# Altium footprint library demoboard.PcbLib: 10 footprints
Each footprint in its own frame and in the unit in brackets; x right, y up, seen from the top. Pads: shape width x height; smd on the part's side, far side on the other; paste and mask are expansions set on the pad; w line width, h text height; cw(c..) or ccw(c..) is an arc to the next point about the centre after c.
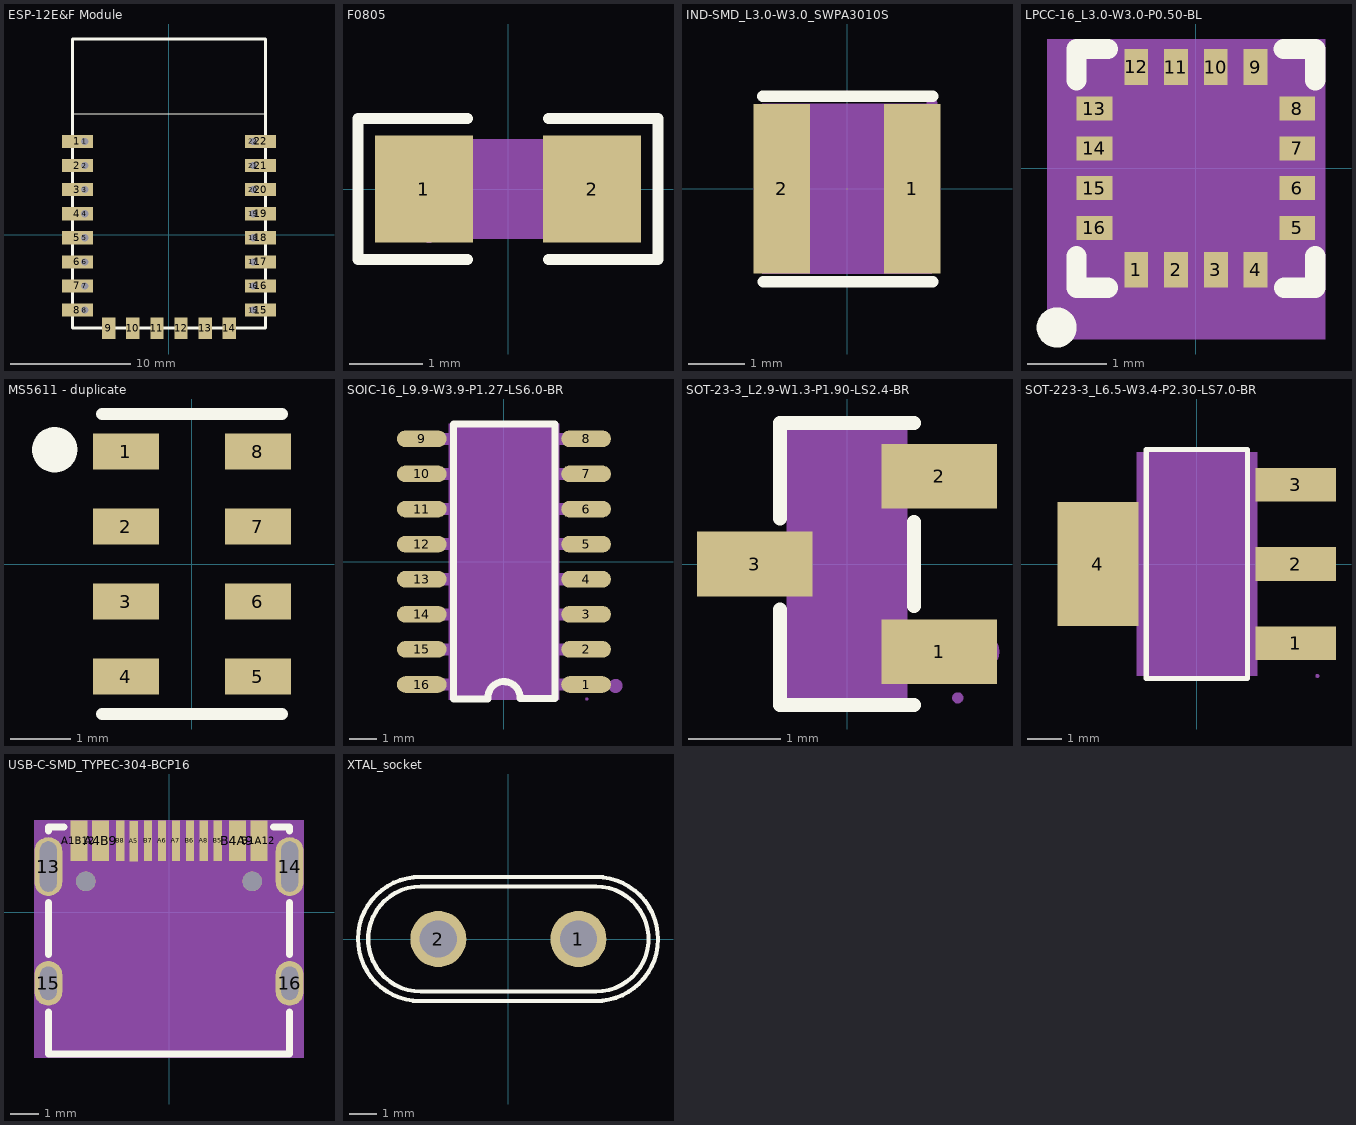
[diagram p0: the footprints below, top view; thin cyan lines are the x and y axes]

## ESP-12E&F Module [mm]
pads (38):
  rect 2.6x1.1 smd: 1(-7.6,7.75) 2(-7.6,5.75) 3(-7.6,3.75) 4(-7.6,1.75) 5(-7.6,-0.25) 6(-7.6,-2.25) 7(-7.6,-4.25) 8(-7.6,-6.25) 15(7.6,-6.25) 16(7.6,-4.25) 17(7.6,-2.25) 18(7.6,-0.25) 19(7.6,1.75) 20(7.6,3.75) 21(7.6,5.75) 22(7.6,7.75)
  rect 0.762x1 hole 0.6: 1(-7,7.75) 7(-7,-4.25)
  rect 0.762x1 / inner rect 0.762x1 / far side rect 1x1 hole 0.6: 2(-7,5.75) 3(-7,3.75) 4(-7,1.75) 5(-7,-0.25) 6(-7,-2.25) 8(-7,-6.25) 15(7,-6.25) 16(7,-4.25) 17(7,-2.25) 18(7,-0.25) 19(7,1.75) 20(7,3.75) 21(7,5.75) 22(7,7.75)
  rect 1.1x1.8 smd: 9(-5,-7.75) 10(-3,-7.75) 11(-1,-7.75) 12(1,-7.75) 13(3,-7.75) 14(5,-7.75)
Top Overlay:
  lines w0.1: -8,10.05 8,10.05
  lines w0.254: -8,-7.75 -8,16.25 8,16.25 8,-7.75 -8,-7.75

## F0805 [mm]
pads (2):
  rect 1.335x1.458 smd: 1(-1.142,0) 2(1.142,0)
Top Overlay:
  lines w0.152: -0.551,-0.958 -2.039,-0.958 -2.039,0.958 -0.551,0.958 ; 0.551,-0.958 2.039,-0.958 2.039,0.958 0.551,0.958
Top Paste:
  region: 0.428,-0.233 0.428,0.233 0.881,0.729 1.71,0.729 1.81,0.629 1.81,-0.629 1.71,-0.729 0.881,-0.729
  region: -0.428,-0.233 -0.428,0.233 -0.881,0.729 -1.71,0.729 -1.81,0.629 -1.81,-0.629 -1.71,-0.729 -0.881,-0.729
Mechanical 4:
  region: -1.075,-0.675 -1.075,0.675 1.075,0.675 1.075,-0.675
Mechanical 5:
  region: -1.075,-0.675 -1.075,0.675 -0.675,0.675 -0.675,-0.675
  region: 1.075,-0.675 1.075,0.675 0.675,0.675 0.675,-0.675
Mechanical 6:
  circle w0.06: c-1.075,-0.675 r0.03

## IND-SMD_L3.0-W3.0_SWPA3010S [mm]
pads (2):
  rect 1x3 smd: 1(1.15,0) 2(-1.15,0)
Top Overlay:
  lines w0.203: -1.487,1.639 1.513,1.639 ; -1.481,-1.647 1.519,-1.647
Mechanical 4:
  region: -1.5,1.5 1.5,1.5 1.5,-1.5 -1.5,-1.5
Mechanical 5:
  region: 1.5,-1.25 0.75,-1.25 0.75,1.25 1.5,1.25
  region: -0.75,-1.25 -1.5,-1.25 -1.5,1.25 -0.75,1.25
Mechanical 6:
  circle w0.1: c1.5,1.5 r0.05

## LPCC-16_L3.0-W3.0-P0.50-BL [mm]
pads (16):
  rect 0.3x0.45 smd: 1(-0.749,-1.275) 2(-0.249,-1.275) 3(0.251,-1.275) 4(0.751,-1.275) 9(0.75,1.275) 10(0.25,1.275) 11(-0.25,1.275) 12(-0.749,1.275)
  rect 0.45x0.3 smd: 5(1.275,-0.748) 6(1.275,-0.248) 7(1.275,0.252) 8(1.275,0.752) 13(-1.275,0.752) 14(-1.275,0.252) 15(-1.275,-0.248) 16(-1.275,-0.748)
Top Overlay:
  circle w0.254: c-1.75,-2 r0.125
  lines w0.254: -1.5,-1.104 -1.5,-1.5 -1.105,-1.5 ; -1.5,1.108 -1.5,1.5 -1.105,1.5 ; 1.106,1.5 1.5,1.5 1.5,1.108 ; 1.108,-1.5 1.5,-1.5 1.5,-1.104
Mechanical 4:
  region: -1.869,1.627 1.627,1.627 1.627,-2.145 -1.869,-2.145
Mechanical 5:
  region: -1.5,-0.598 -1.05,-0.598 -1.05,-0.898 -1.5,-0.898
  region: -1.5,-0.098 -1.05,-0.098 -1.05,-0.398 -1.5,-0.398
  region: -1.5,0.402 -1.05,0.402 -1.05,0.102 -1.5,0.102
  region: -1.5,0.902 -1.05,0.902 -1.05,0.602 -1.5,0.602
  region: -0.899,1.5 -0.599,1.5 -0.599,1.05 -0.899,1.05
  region: -0.4,1.5 -0.1,1.5 -0.1,1.05 -0.4,1.05
  region: 0.1,1.5 0.4,1.5 0.4,1.05 0.1,1.05
  region: 0.6,1.5 0.9,1.5 0.9,1.05 0.6,1.05
  region: 1.05,0.902 1.5,0.902 1.5,0.602 1.05,0.602
  region: 1.05,0.402 1.5,0.402 1.5,0.102 1.05,0.102
  region: 1.05,-0.098 1.5,-0.098 1.5,-0.398 1.05,-0.398
  region: 1.05,-0.598 1.5,-0.598 1.5,-0.898 1.05,-0.898
  region: 0.601,-1.05 0.901,-1.05 0.901,-1.5 0.601,-1.5
  region: 0.101,-1.05 0.401,-1.05 0.401,-1.5 0.101,-1.5
  region: -0.399,-1.05 -0.099,-1.05 -0.099,-1.5 -0.399,-1.5
  region: -0.899,-1.05 -0.599,-1.05 -0.599,-1.5 -0.899,-1.5

## MS5611 - duplicate [mm]
height 2.44
pads (8):
  rect 1.1x0.6 smd: 1(-1.1,1.875) 2(-1.1,0.625) 3(-1.1,-0.625) 4(-1.1,-1.875) 5(1.1,-1.875) 6(1.1,-0.625) 7(1.1,0.625) 8(1.1,1.875)
Top Overlay:
  circle w0.5: c-2.286,1.905 r0.127
  lines w0.2: -1.5,-2.5 1.5,-2.5 ; -1.5,2.5 1.5,2.5

## SOIC-16_L9.9-W3.9-P1.27-LS6.0-BR [mm]
pads (16):
  oval 1.8x0.6 smd: 1(2.972,-4.445) 2(2.972,-3.175) 3(2.972,-1.905) 4(2.972,-0.635) 5(2.972,0.635) 6(2.972,1.905) 7(2.972,3.175) 8(2.972,4.445) 9(-2.972,4.445) 10(-2.972,3.175) 11(-2.972,1.905) 12(-2.972,0.635) 13(-2.972,-0.635) 14(-2.972,-1.905) 15(-2.972,-3.175) 16(-2.972,-4.445)
Top Overlay:
  lines w0.254: -0.584,-4.976 -1.829,-4.976 -1.829,4.976 1.854,4.976 1.854,-4.928 ; -0.584,-4.95 cw(c0,-4.928) 0.584,-4.953 1.854,-4.953
Mechanical 4:
  region: -2,-5 -2,5 2,5 2,-5
Mechanical 5:
  region: -3,4.235 -3,4.655 -2.165,4.655 -2.165,4.235
  pour cut-out: -2.175,4.235 -2.175,4.655 -1.99,4.655 -1.99,4.235
  region: -3,2.965 -3,3.385 -2.165,3.385 -2.165,2.965
  pour cut-out: -2.175,2.965 -2.175,3.385 -1.99,3.385 -1.99,2.965
  region: -3,1.695 -3,2.115 -2.165,2.115 -2.165,1.695
  pour cut-out: -2.175,1.695 -2.175,2.115 -1.99,2.115 -1.99,1.695
  region: -3,0.425 -3,0.845 -2.165,0.845 -2.165,0.425
  pour cut-out: -2.175,0.425 -2.175,0.845 -1.99,0.845 -1.99,0.425
  region: -3,-0.845 -3,-0.425 -2.165,-0.425 -2.165,-0.845
  pour cut-out: -2.175,-0.845 -2.175,-0.425 -1.99,-0.425 -1.99,-0.845
  region: -3,-2.115 -3,-1.695 -2.165,-1.695 -2.165,-2.115
  pour cut-out: -2.175,-2.115 -2.175,-1.695 -1.99,-1.695 -1.99,-2.115
  region: -3,-3.385 -3,-2.965 -2.165,-2.965 -2.165,-3.385
  pour cut-out: -2.175,-3.385 -2.175,-2.965 -1.99,-2.965 -1.99,-3.385
  region: -3,-4.655 -3,-4.235 -2.165,-4.235 -2.165,-4.655
  pour cut-out: -2.175,-4.655 -2.175,-4.235 -1.99,-4.235 -1.99,-4.655
  region: 2.165,4.235 2.165,4.655 3,4.655 3,4.235
  pour cut-out: 1.99,4.235 1.99,4.655 2.175,4.655 2.175,4.235
  region: 2.165,2.965 2.165,3.385 3,3.385 3,2.965
  pour cut-out: 1.99,2.965 1.99,3.385 2.175,3.385 2.175,2.965
  region: 2.165,1.695 2.165,2.115 3,2.115 3,1.695
  pour cut-out: 1.99,1.695 1.99,2.115 2.175,2.115 2.175,1.695
  region: 2.165,0.425 2.165,0.845 3,0.845 3,0.425
  pour cut-out: 1.99,0.425 1.99,0.845 2.175,0.845 2.175,0.425
  region: 2.165,-0.845 2.165,-0.425 3,-0.425 3,-0.845
  pour cut-out: 1.99,-0.845 1.99,-0.425 2.175,-0.425 2.175,-0.845
  region: 2.165,-2.115 2.165,-1.695 3,-1.695 3,-2.115
  pour cut-out: 1.99,-2.115 1.99,-1.695 2.175,-1.695 2.175,-2.115
  region: 2.165,-3.385 2.165,-2.965 3,-2.965 3,-3.385
  pour cut-out: 1.99,-3.385 1.99,-2.965 2.175,-2.965 2.175,-3.385
  region: 2.165,-4.655 2.165,-4.235 3,-4.235 3,-4.655
  pour cut-out: 1.99,-4.655 1.99,-4.235 2.175,-4.235 2.175,-4.655
Mechanical 6:
  circle w0.06: c3,-4.97 r0.03
Mechanical 15:
  circle w0.254: c4.039,-4.496 r0.127

## SOT-23-3_L2.9-W1.3-P1.90-LS2.4-BR [mm]
pads (3):
  rect 1.25x0.7 smd: 1(1,-0.95) 2(1,0.95) 3(-1,0)
Top Overlay:
  lines w0.152: -0.726,-0.495 -0.726,-1.526 0.726,-1.526 ; -0.726,0.495 -0.726,1.526 0.726,1.526 ; 0.726,-0.455 0.726,0.455
Mechanical 4:
  region: -0.65,-1.45 -0.65,1.45 0.65,1.45 0.65,-1.45
Mechanical 5:
  pour cut-out: -0.69,-0.21 -0.69,0.21 -0.64,0.21 -0.64,-0.21
  region: -1.2,-0.21 -1.2,0.21 -0.68,0.21 -0.68,-0.21
  pour cut-out: 0.64,0.74 0.64,1.16 0.69,1.16 0.69,0.74
  region: 0.68,0.74 0.68,1.16 1.2,1.16 1.2,0.74
  pour cut-out: 0.64,-1.16 0.64,-0.74 0.69,-0.74 0.69,-1.16
  region: 0.68,-1.16 0.68,-0.74 1.2,-0.74 1.2,-1.16
Mechanical 6:
  circle w0.06: c1.2,-1.45 r0.03
Mechanical 15:
  circle w0.2: c1.45,-0.95 r0.1

## SOT-223-3_L6.5-W3.4-P2.30-LS7.0-BR [mm]
pads (4):
  rect 2.34x0.98 smd: 1(2.87,-2.3) 2(2.87,0) 3(2.87,2.3)
  rect 2.34x3.6 smd: 4(-2.87,0)
Top Overlay:
  lines w0.152: -1.471,-3.326 1.471,-3.326 1.471,3.326 -1.471,3.326 -1.471,-3.326
Mechanical 4:
  region: -1.75,-3.25 -1.75,3.25 1.75,3.25 1.75,-3.25
Mechanical 5:
  pour cut-out: -2.61,-1.5 -2.61,1.5 -1.74,1.5 -1.74,-1.5
  region: -2.6,-1.5 -2.6,1.5 -3.5,1.5 -3.5,-1.5
  pour cut-out: 1.74,1.95 1.74,2.65 2.61,2.65 2.61,1.95
  region: 2.6,1.95 2.6,2.65 3.5,2.65 3.5,1.95
  pour cut-out: 1.74,-0.35 1.74,0.35 2.61,0.35 2.61,-0.35
  region: 2.6,-0.35 2.6,0.35 3.5,0.35 3.5,-0.35
  pour cut-out: 1.74,-2.65 1.74,-1.95 2.61,-1.95 2.61,-2.65
  region: 2.6,-2.65 2.6,-1.95 3.5,-1.95 3.5,-2.65
Mechanical 6:
  circle w0.06: c3.5,-3.25 r0.03

## USB-C-SMD_TYPEC-304-BCP16 [mm]
pads (18):
  oval 1x2.1 hole 0.6 slot 1.8 at 90 deg: 13(-4.32,1.633) 14(4.32,1.633)
  oval 1x1.6 hole 0.6 slot 1.2 at 90 deg: 15(-4.32,-2.547) 16(4.32,-2.547)
  rect 0.6x1.45 smd: A1B12(-3.225,2.547) A4B9(-2.45,2.547) B1A12(3.22,2.547) B4A9(2.45,2.547)
  rect 0.3x1.45 smd: A5(-1.26,2.532) A6(-0.25,2.547) A7(0.25,2.547) A8(1.25,2.547) B5(1.75,2.547) B6(0.75,2.547) B7(-0.75,2.547) B8(-1.75,2.547)
  round 0.7 hole 0.7 unplated: ""(-2.98,1.102) ""(2.98,1.102)
Top Overlay:
  lines w0.254: -4.318,-3.579 -4.318,-5.08 4.318,-5.08 4.318,-3.579 ; -4.318,-1.516 -4.318,0.351 ; -4.318,2.914 -4.318,3.048 -3.756,3.048 ; 3.751,3.048 4.318,3.048 4.318,2.914 ; 4.318,-1.516 4.318,0.351
Mechanical 4:
  circle w0.35: c2.98,1.102 r0.175
  circle w0.35: c-2.98,1.102 r0.175
  region: -4.82,3.284 4.82,3.284 4.82,-5.207 -4.82,-5.207
Mechanical 5:
  circle w0.127: c2.98,1.102 r0.35
  circle w0.127: c-2.98,1.102 r0.35
  region: 3.82,-1.747 4.82,-1.747 4.82,-3.347 3.82,-3.347
  region: -4.82,-1.747 -3.82,-1.747 -3.82,-3.347 -4.82,-3.347
  region: 3.82,2.683 4.82,2.683 4.82,0.583 3.82,0.583
  region: -4.82,2.683 -3.82,2.683 -3.82,0.583 -4.82,0.583
  region: 2.92,3.272 3.52,3.272 3.52,1.823 2.92,1.823
  region: 2.15,3.272 2.75,3.272 2.75,1.823 2.15,1.823
  region: 1.6,3.272 1.9,3.272 1.9,1.823 1.6,1.823
  region: 1.1,3.272 1.4,3.272 1.4,1.823 1.1,1.823
  region: 0.6,3.272 0.9,3.272 0.9,1.823 0.6,1.823
  region: 0.1,3.272 0.4,3.272 0.4,1.823 0.1,1.823
  region: -0.4,3.272 -0.1,3.272 -0.1,1.823 -0.4,1.823
  region: -0.9,3.272 -0.6,3.272 -0.6,1.823 -0.9,1.823
  region: -1.41,3.257 -1.11,3.257 -1.11,1.807 -1.41,1.807
  region: -1.9,3.272 -1.6,3.272 -1.6,1.823 -1.9,1.823
  region: -2.75,3.272 -2.15,3.272 -2.15,1.823 -2.75,1.823
  region: -3.525,3.272 -2.925,3.272 -2.925,1.823 -3.525,1.823

## XTAL_socket [mil]
pads (2):
  round 80 hole 53: 1(100,0) 2(-100,0)
Top Overlay:
  lines w6: -126,-88.58 cw(c-126,0) -125.09,88.58 125,88.58 cw(c125,0) 124.07,-88.58 -126,-88.58 ; -125,-75 cw(c-125,0) -125,75 125,75 cw(c125,0) 125,-75 -125,-75
3D body: height 78.74, standoff -39.37, extent -119.53,-19.65 -80.31,19.65
3D body: height 78.74, standoff -39.37, extent 80.47,-19.64 119.69,19.65
3D body "base.stp": height 102.36, standoff 3.94, extent -214.22,-89.42 214.23,89.42